# Altium schematic symbol library Shelestov_Switches.SchLib: 4 symbols
Pins are listed as number, name and electrical type; pins without a type are passive.

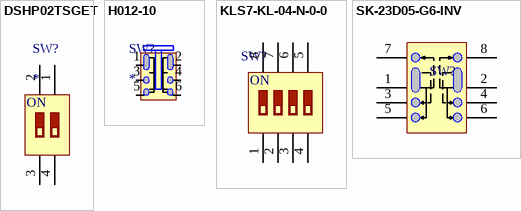
[diagram p0: symbols DSHP02TSGET to SK-23D05-G6-INV]

## DSHP02TSGET
designator SW?
MP: DSHP02TSGET; MF: Dongguan Guangzhu Industrial; LCSC: C40735; PriceLCSC: 0.5735; ComponentLink1Description: URLLCSC; ComponentLink1URL: https://lcsc.com/product-detail/DIP-Switches_Dongguan-Guangzhu-Industrial-DSHP02TSGET_C40735.html
footprint DHN-02F
pins: 1, 2, 3, 4
text: ON

## H012-10
designator SW?
H012-10
footprint H012-10
pins: 1, 2, 3, 4, 5, 6

## KLS7-KL-04-N-0-0
designator SW?  (value not drawn)
ComponentLink1Description: URLRCS; ComponentLink1URL: https://www.rcscomponents.kiev.ua/product/pereklyuchatel-swd4-4-kls7-kl-04-n-0-0_89374.html
footprint KLS7-KL-04-N-0-0
pins: 1, 2, 3, 4, 5, 6, 7, 8
text: ON

## SK-23D05-G6-INV
designator SW?  (value not drawn)
footprint SW-23D05-G6-INV
pins: 1, 2, 3, 4, 5, 6, 7, 8